# Altium footprint library IRM-03-5.PcbLib: 1 footprints
Each footprint in its own frame and in the unit in brackets; x right, y up, seen from the top. Pads: shape width x height; smd on the part's side, far side on the other; paste and mask are expansions set on the pad; w line width, h text height; cw(c..) or ccw(c..) is an arc to the next point about the centre after c.
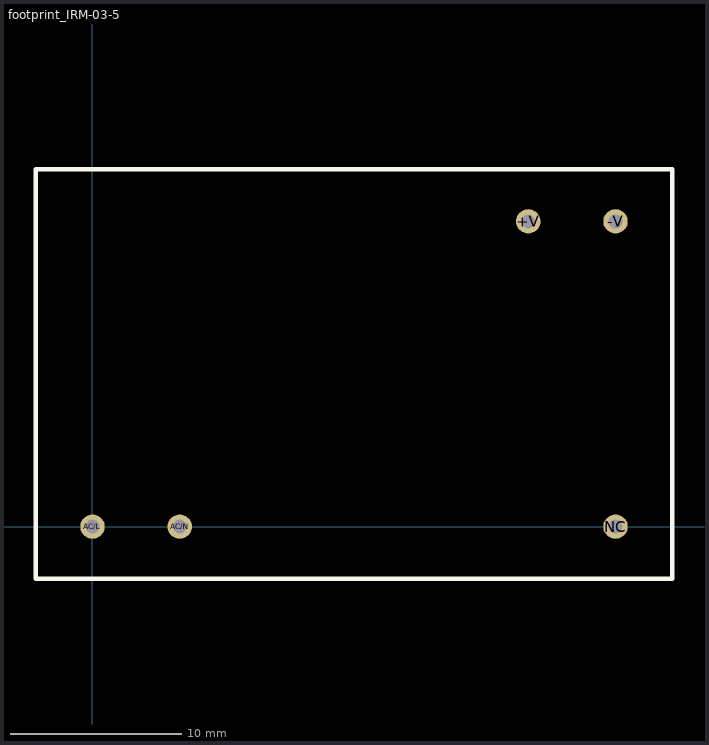
[diagram p0: the footprint, top view; thin cyan lines are the x and y axes]

## footprint_IRM-03-5 [mil]
pads (5):
  round 56 hole 31.5: +V(1000,700) -V(1200,700) AC/L(0,0) AC/N(200,0) NC(1200,0)
Top Overlay:
  lines w10: -130,-120 1330,-120 1330,820 -130,820 -130,-120
3D body "IRM03-PIN.stp": height 590.55, standoff -137.8, extent -130,-124.88 1326.69,820